# Altium footprint library YAGEO_Library.PcbLib: 1 footprints
Each footprint in its own frame and in the unit in brackets; x right, y up, seen from the top. Pads: shape width x height; smd on the part's side, far side on the other; paste and mask are expansions set on the pad; w line width, h text height; cw(c..) or ccw(c..) is an arc to the next point about the centre after c.
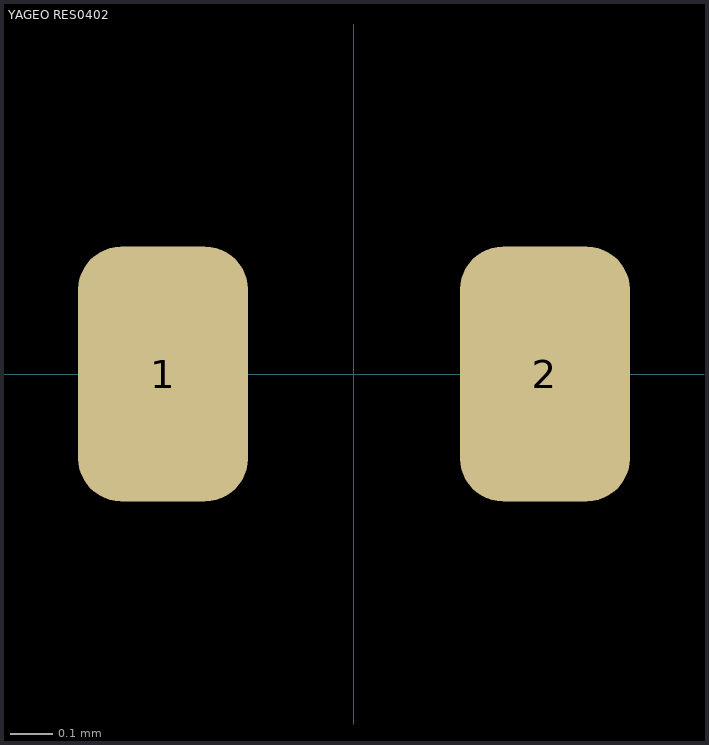
[diagram p0: the footprint, top view; thin cyan lines are the x and y axes]

## YAGEO RES0402 [mm] "YAGEO RES0402"
pads (2):
  rrect50% 0.4x0.6 smd: 1(-0.45,0) 2(0.45,0)
3D body "RES0402.stp": height 0.3, standoff 0, extent -0.5,-0.25 0.5,0.25